# Altium footprint library TE Connectors.PcbLib: 1 footprints
Each footprint in its own frame and in the unit in brackets; x right, y up, seen from the top. Pads: shape width x height; smd on the part's side, far side on the other; paste and mask are expansions set on the pad; w line width, h text height; cw(c..) or ccw(c..) is an arc to the next point about the centre after c.
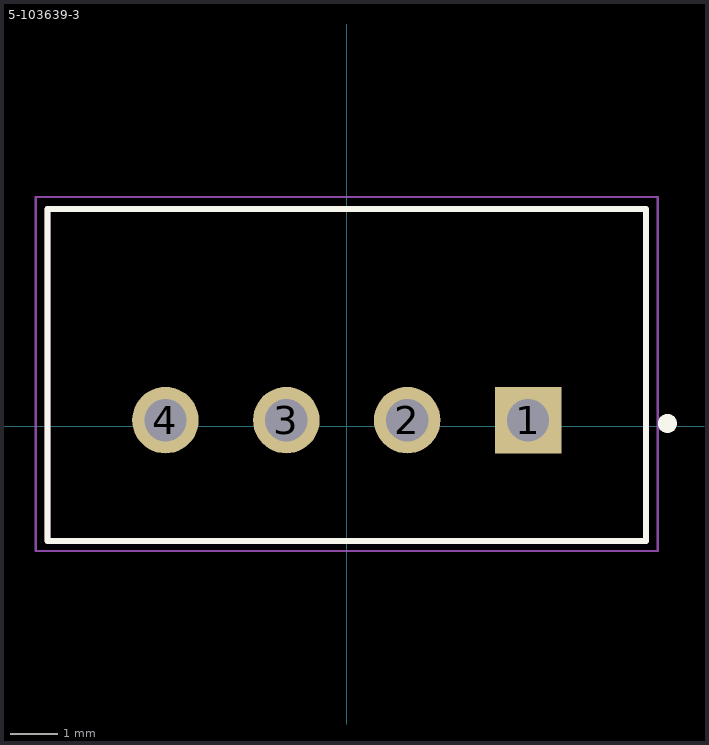
[diagram p0: the footprint, top view; thin cyan lines are the x and y axes]

## 5-103639-3 [mil]
pads (4):
  rect 55.04x55.04 / inner round 55.04 / far side rect 55.04x55.04 hole 35.04 mask+4.02: 1(150,5)
  round 55.04 hole 35.04 mask+4.02: 2(50,5) 3(-50,5) 4(-150,5)
Top Overlay:
  circle w7.87: c265.31,2.28 r3.94
  lines w5: -247.44,-95 -247.44,179.8 247.44,179.8 247.44,-95 -247.44,-95
Mechanical 13:
  lines w5: -247.44,-95 -247.44,179.8 247.44,179.8 247.44,-95 -247.44,-95
Mechanical 15:
  lines w1.97: -257.28,-103.27 -257.28,189.65 257.28,189.65 257.28,-103.27 -257.28,-103.27
3D body "step_temp.STEP": height 531.5, standoff -133.46, extent -247.44,-95 247.44,164.84